# Altium footprint library temperature-controller-lib.PcbLib: 5 footprints
Each footprint in its own frame and in the unit in brackets; x right, y up, seen from the top. Pads: shape width x height; smd on the part's side, far side on the other; paste and mask are expansions set on the pad; w line width, h text height; cw(c..) or ccw(c..) is an arc to the next point about the centre after c.
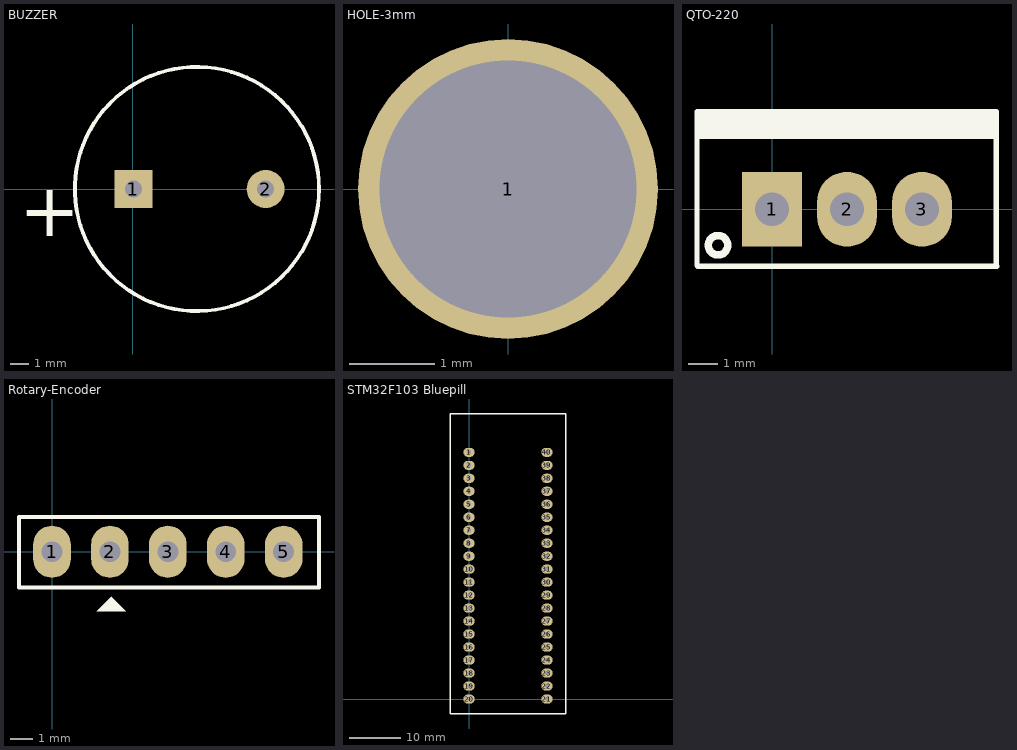
[diagram p0: the footprints below, top view; thin cyan lines are the x and y axes]

## BUZZER [mil] "Buzzer"
pads (2):
  rect 80x80 hole 36: 1(1.27,0)
  round 80 hole 36: 2(280,0)
Top Overlay:
  circle w8: c135,0 r257.39
  text "+" at -240,-100 h112.5
3D body "Buzzer.step": height 334.65, standoff -216.54, extent -96.22,-240 376.22,232.44

## HOLE-3mm [mil]
pads (1):
  round 138 hole 118.1: 1(0,0)

## QTO-220 [mil] "TO-220 - 1-2-3"
height 200
pads (3):
  rect 80x100 hole 45: 1(0,0)
  oval 80x100 hole 45: 2(100,0) 3(200,0)
Top Overlay:
  circle w10: c-72.03,-48 r12.97
  rectangle: -99,94 300,130
  lines w7: 298,107 299,93 ; -100,-75 -100,130 299,130 299,-75 300,-76 -76,-76 -99,-76 -100,-75
3D body "SW3dPS-TO220AB.STEP": height 754.72, standoff -400, extent -119,-64 322.46,120.65

## Rotary-Encoder [mil] "JP5"
height 200
pads (5):
  oval 65x90 hole 36: 1(0,0) 2(100,0) 3(200,0) 4(300,0) 5(400,0)
Top Overlay:
  region: 102.5,-77.5 77.5,-102.5 127.5,-102.5
  lines w7: -57,-62 -57,60 461,60 461,-62 -57,-62
3D body "SW2019 Rotary Encoder Knob Module.STEP": height 1033.07, standoff -164.96, extent -277.91,-1060.47 479.96,297.8

## STM32F103 Bluepill [mil]
pads (40):
  oval 86.61x70 hole 32: 1(0,1900) 2(0,1800) 3(0,1700) 4(0,1600) 5(0,1500) 6(0,1400) 7(0,1300) 8(0,1200) 9(0,1100) 10(0,1000) 11(0,900) 12(0,800) 13(0,700) 14(0,600) 15(0,500) 16(0,400) 17(0,300) 18(0,200) 19(0,100) 20(0,0) 21(600,0) 22(600,100) 23(600,200) 24(600,300) 25(600,400) 26(600,500) 27(600,600) 28(600,700) 29(600,800) 30(600,900) 31(600,1000) 32(600,1100) 33(600,1200) 34(600,1300) 35(600,1400) 36(600,1500) 37(600,1600) 38(600,1700) 39(600,1800) 40(600,1900)
Top Overlay:
  lines w10: -145,-115 745,-115 745,2195 -145,2195 -145,-115
3D body "BluePill2_1567071806.STEP": height 571.26, standoff -115, extent -140.83,-112.53 745,2195.99